# Altium footprint library Led.PcbLib: 80 footprints (part 3 of 5)
Each footprint in its own frame and in the unit in brackets; x right, y up, seen from the top. Pads: shape width x height; smd on the part's side, far side on the other; paste and mask are expansions set on the pad; w line width, h text height; cw(c..) or ccw(c..) is an arc to the next point about the centre after c.
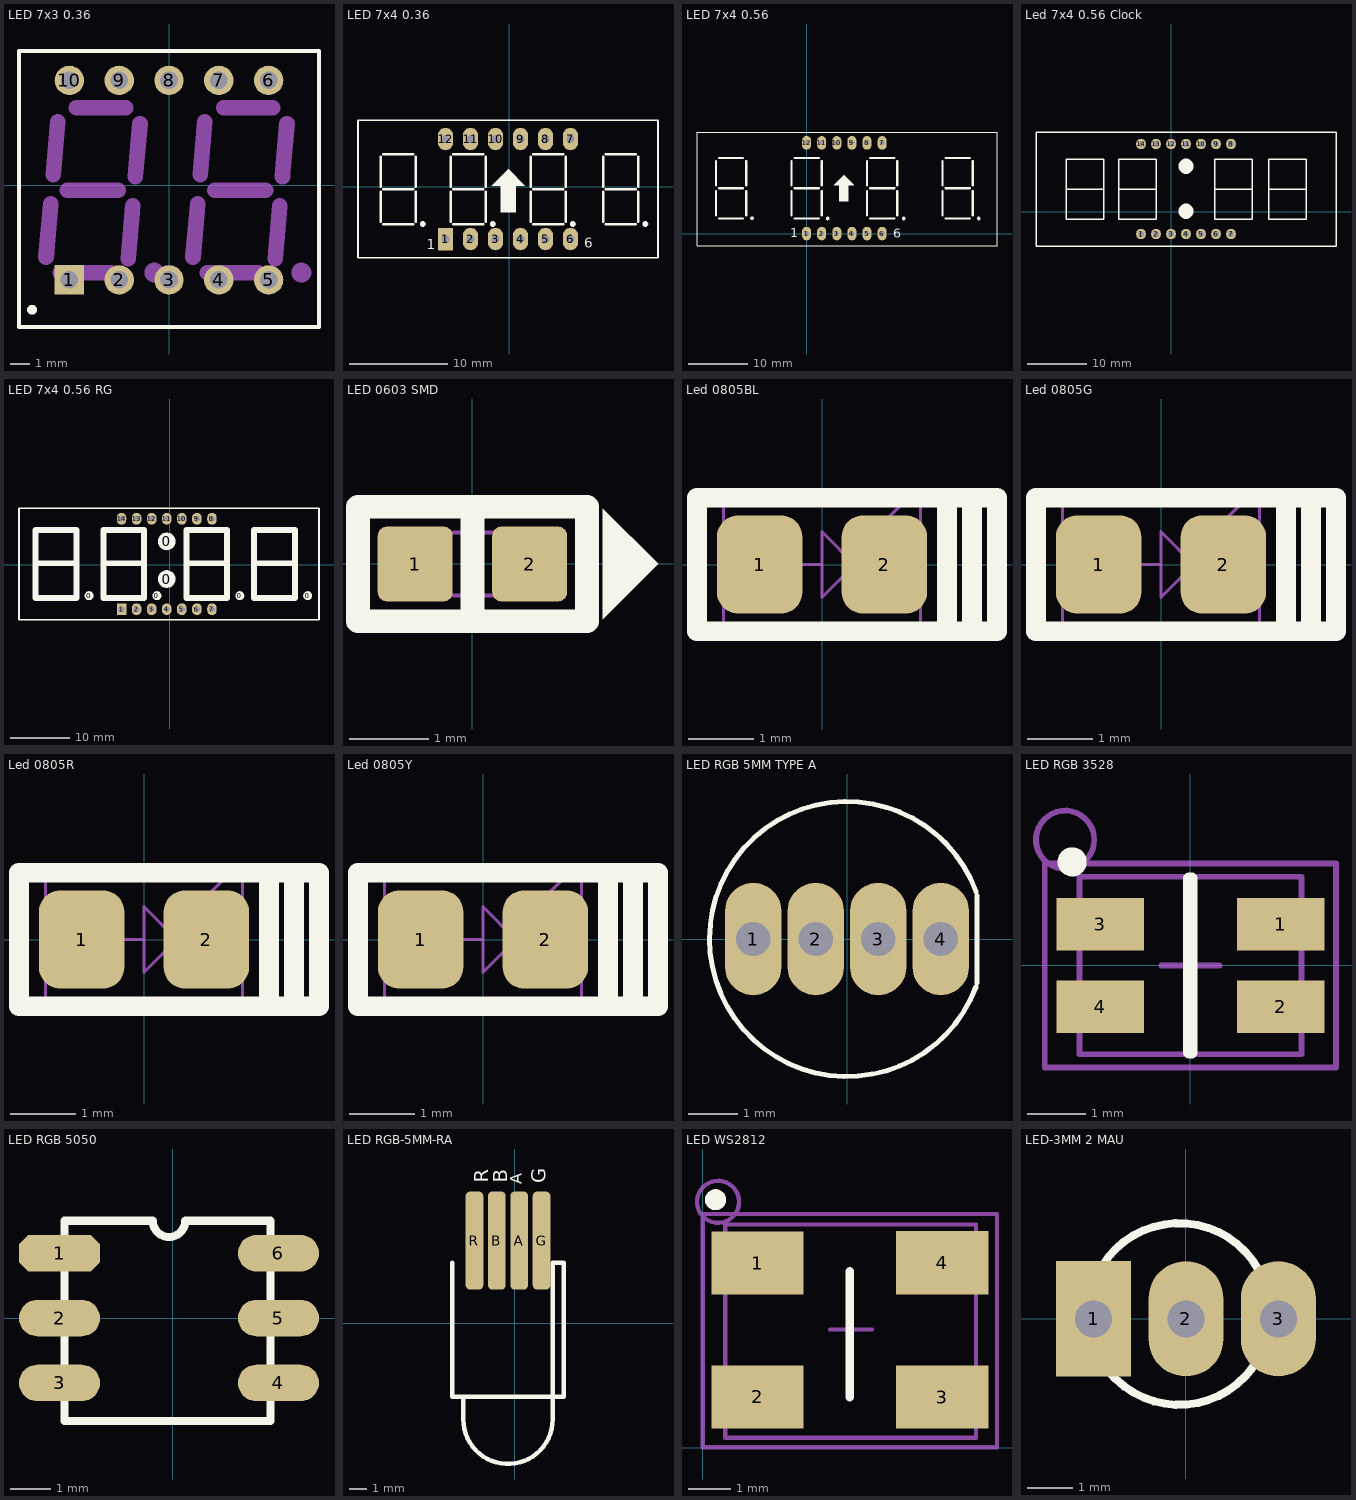
[diagram p2: the footprints below, top view; thin cyan lines are the x and y axes]

## LED 7x3 0.36 [mm]
height 7.35
pads (10):
  rect 1.5x1.5 hole 0.9: 1(-5.08,-4.826)
  round 1.5 hole 0.9: 2(-2.54,-4.826) 3(0,-4.826) 4(2.54,-4.826) 5(5.08,-4.826) 6(5.08,5.35) 7(2.54,5.35) 8(0,5.35) 9(-2.54,5.35) 10(-5.08,5.35)
Top Overlay:
  circle w0.25: c-6.985,-6.35 r0.125
  lines w0.2: -7.65,-7.239 -7.65,-0.635 -7.65,6.858 7.65,6.858 7.65,-7.239 -7.65,-7.239
Mechanical 1:
  circle w0.75: c-0.747,-4.454 r0.13
  circle w0.75: c6.753,-4.454 r0.13
  lines w0.8: -6.275,-3.656 -6.038,-0.949 ; -5.909,0.547 -5.671,3.242 ; -5.541,-4.454 -2.949,-4.454 ; -5.172,-0.254 -2.582,-0.254 ; -4.714,3.946 -2.213,3.946 ; -2.084,-3.75 -1.847,-1.056 ; -1.715,0.448 -1.48,3.145 ; 1.225,-3.656 1.462,-0.949 ; 1.591,0.547 1.829,3.242 ; 1.959,-4.454 4.551,-4.454 ; 2.328,-0.254 4.918,-0.254 ; 2.786,3.946 5.287,3.946 ; 5.416,-3.75 5.653,-1.056 ; 5.785,0.448 6.02,3.145
3D body "61300511821.stp": height 8.51, standoff -3.09, extent -6.6,4.1 6.6,6.6
3D body "61300511821.stp": height 8.51, standoff -3.09, extent -6.6,-6.076 6.6,-3.576
3D body "SD-3361_X.SLDPRT": height 12, standoff -1.3, extent -9.98,-6.746 12.52,7.254

## LED 7x4 0.36 [mil]
height 300
pads (12):
  rect 60x90 hole 31: 1(-255,-210)
  oval 60x90 hole 31: 2(-155,-210) 3(-55,-210) 4(45,-210) 5(145,-210) 6(245,-210) 7(245,190) 8(145,190) 9(45,190) 10(-55,190) 11(-155,190) 12(-255,190)
Top Overlay:
  circle w12: c-66,-150 r6
  circle w12: c-346,-150 r6
  circle w12: c544,-150 r6
  circle w12: c254,-150 r6
  region: -71,3 -5,69 -3,69 62,4 62,3 25,3 25,-103 -34,-103 -34,3
  lines w7: -605,-285 595,-285 595,265 -605,265 -605,-285
  lines w10: -515,-140 -515,-20 ; -515,0 -515,120 ; -505,-150 -385,-150 ; -505,130 -385,130 ; -375,-140 -375,-20 ; -375,0 -375,120 ; -235,-140 -235,-20 ; -235,0 -235,120 ; -225,-150 -105,-150 ; -225,130 -105,130 ; -95,-140 -95,-20 ; -95,0 -95,120 ; 85,-140 85,-20 ; 85,0 85,120 ; 95,-150 215,-150 ; 95,130 215,130 ; 225,-140 225,-20 ; 225,0 225,120 ; 375,-140 375,-20 ; 375,0 375,120 ; 385,-150 505,-150 ; 385,130 505,130 ; 515,-140 515,-20 ; 515,0 515,120 ; -505,-10 -385,-10 -505,-10 ; -225,-10 -105,-10 -225,-10 ; 95,-10 215,-10 95,-10 ; 385,-10 505,-10 385,-10
  text "6" at 300,-245 h39.37
  text "1" at -330,-250 h39.37
3D body "User Library-7-seg-4_asm.STEP": height 7.87, standoff -511.81, extent -595.55,-291.18 585.55,260
3D body "SOCKET6.stp": height 276.19, standoff -117.51, extent -305,140 295,240
3D body "SOCKET6.stp": height 276.19, standoff -117.51, extent -305,-259.99 295,-159.99

## LED 7x4 0.56 [mil]
height 300
pads (12):
  oval 60x90 hole 31: 1(0,0) 2(100,0) 3(200,0) 4(300,0) 5(400,0) 6(500,0) 7(500,600) 8(400,600) 9(300,600) 10(200,600) 11(100,600) 12(0,600)
Top Overlay:
  drawing of 155 lines, arcs and shapes, not listed
  text "1" at -108,-24 h60
  text "6" at 575,-26 h60
3D body "7seg2-4.STEP": height 564.96, standoff 112.2, extent -720.16,-80 1260.16,668.03
3D body "SOCKET6.stp": height 276.19, standoff -117.51, extent -50,-44.99 550,55.01
3D body "SOCKET6.stp": height 276.19, standoff -117.51, extent -50,550 550,650

## Led 7x4 0.56 Clock [mil]
pads (14):
  oval 65x70 hole 40: 1(-200,-150) 2(-100,-150) 3(0,-150) 4(100,-150) 5(200,-150) 6(300,-150) 7(400,-150) 8(400,450) 9(300,450) 10(200,450) 11(100,450) 12(0,450) 13(-100,450) 14(-200,450)
Top Overlay:
  lines w10: -700,150 -450,150 ; -350,150 -100,150 ; 290,150 540,150 ; 650,150 900,150 ; -900,-230 -900,530 1100,530 1100,-230 -900,-230 ; -700,-50 -450,-50 -450,350 -700,350 -700,-50 ; -350,-50 -100,-50 -100,350 -350,350 -350,-50 ; 290,-50 540,-50 540,350 290,350 290,-50 ; 650,-50 900,-50 900,350 650,350 650,-50
  lines w100: 100,0 ccw(c72,4) 100.28,4 ; 100,300 ccw(c72,304) 100.28,304
3D body "7seg clock.step": height 280.13, standoff -196.25, extent -890.15,-224.01 1090.16,524.02

## LED 7x4 0.56 RG [mil]
pads (20):
  round 60 on Top Overlay: 0(-535,-205) 0(-85,-205) 0(465,-205) 0(915,-205)
  round 118.11 on Top Overlay: 0(-20,-95) 0(-20,155)
  rect 62.99x78.74 hole 39.37: 1(-320,-295)
  oval 62.99x78.74 hole 39.37: 2(-220,-295) 3(-120,-295) 4(-20,-295) 5(80,-295) 6(180,-295) 7(280,-295) 8(280,305) 9(180,305) 10(80,305) 11(-20,305) 12(-120,305) 13(-220,305) 14(-320,305)
Top Overlay:
  lines w10: -1000,-365 -1000,375 990,375 990,-365 -1000,-365
  lines w39.37: -885,10 -620,10 ; -435,10 -170,10 ; 115,10 380,10 ; 565,10 830,10 ; -890,-220 -890,230 -620,230 -620,-220 -890,-220 ; -440,-220 -440,230 -170,230 -170,-220 -440,-220 ; 110,-220 110,230 380,230 380,-220 110,-220 ; 560,-220 560,230 830,230 830,-220 560,-220
3D body "7seg2-4.STEP": height 564.96, standoff 112.2, extent -995.16,-370 985.16,378.03
3D body "SOCKET6.stp": height 276.19, standoff -117.51, extent -325,-334.99 275,-234.99
3D body "SOCKET6.stp": height 276.19, standoff -117.51, extent -325,260 275,360

## LED 0603 SMD [mm] "Reflow Soldering"
pads (2):
  rrect25% 0.95x0.95 smd mask+0.1: 1(-0.725,0) 2(0.725,0)
Top Overlay:
  region: 1.65,-0.7 2.35,0 1.65,0.7
  lines w0.3: -1.45,0.725 -1.45,-0.725 1.435,-0.725 ; -1.435,0.725 1.435,0.725 ; 0,-0.725 0,0.725 ; 1.45,-0.725 1.45,0.725
Mechanical 2:
  lines w0.05: -0.1,-0.1 0.1,0.1 ; -0.1,0.1 0.1,-0.1 ; -0.8,-0.4 -0.8,0.4 0.8,0.4 0.8,-0.4 -0.8,-0.4
3D body "User Library-LTST-C190GKT.STEP": height 0.9, standoff 0, extent -0.85,-0.45 0.85,0.45

## Led 0805BL [mm] "Chip LED; BLUE ; Body 2.0 x 1.3 mm (LxW typ)"
height 1.1
pads (2):
  rrect50% 1.3x1.5 smd: 1(-0.95,0) 2(0.95,0)
Top Overlay:
  lines w0.3: 1.905,-1.016 1.905,1.016 ; 2.286,-1.016 2.286,1.016 ; -1.905,-1.016 -1.905,1.016 2.667,1.016 2.667,-1.016 -1.905,-1.016
Mechanical 1:
  lines w0.05: -1.5,-1 -1.5,1.032 ; -0.5,0 0,0 ; 0.5,-0.5 0.5,0.5 ; 0.6,0.5 0.8,0.7 0.8,0.5 1.2,0.9 ; 0.75,0.2 0.95,0.4 0.95,0.2 1.35,0.6 ; 1,0 0.5,0 ; 1.5,-1 1.5,1.032 ; 0.5,0 0,0.5 0,-0.5 0.5,0 ; -1.905,-1 -1.905,1.032 1.905,1.032 1.905,-1 -1.905,-1
3D body "User Library-led_0805.step": height 1.1, standoff 0, extent -1.01,-0.625 1.01,0.625

## Led 0805G [mm] "Chip LED; Green; Body 2.0 x 1.3 mm (LxW typ)"
height 1.1
pads (2):
  rrect50% 1.3x1.5 smd: 1(-0.95,0) 2(0.95,0)
Top Overlay:
  lines w0.3: 1.905,-1.016 1.905,1.016 ; 2.286,-1.016 2.286,1.016 ; -1.905,-1.016 -1.905,1.016 2.667,1.016 2.667,-1.016 -1.905,-1.016
Mechanical 2:
  lines w0.05: -1.5,-1 -1.5,1.032 ; -0.5,0 0,0 ; 0.5,-0.5 0.5,0.5 ; 0.6,0.5 0.8,0.7 0.8,0.5 1.2,0.9 ; 0.75,0.2 0.95,0.4 0.95,0.2 1.35,0.6 ; 1,0 0.5,0 ; 1.5,-1 1.5,1.032 ; 0.5,0 0,-0.5 0,0.5 0.5,0 ; -1.905,-1 -1.905,1.032 1.905,1.032 1.905,-1 -1.905,-1
3D body "User Library-User Library-led_0805 GRE.step": height 1.1, standoff 0, extent -1.035,-0.625 0.985,0.625

## Led 0805R [mm] "Chip LED; RED ; Body 2.0 x 1.3 mm (LxW typ)"
height 1.1
pads (2):
  rrect50% 1.3x1.5 smd: 1(-0.95,0) 2(0.95,0)
Top Overlay:
  lines w0.3: 1.905,-1.016 1.905,1.016 ; 2.286,-1.016 2.286,1.016 ; -1.905,-1.016 -1.905,1.016 2.667,1.016 2.667,-1.016 -1.905,-1.016
Mechanical 1:
  lines w0.05: -1.5,-1 -1.5,1.032 ; -0.5,0 0,0 ; 0.5,-0.5 0.5,0.5 ; 0.6,0.5 0.8,0.7 0.8,0.5 1.2,0.9 ; 0.75,0.2 0.95,0.4 0.95,0.2 1.35,0.6 ; 1,0 0.5,0 ; 1.5,-1 1.5,1.032 ; 0.5,0 0,-0.5 0,0.5 0.5,0 ; -1.905,-1 1.905,-1 1.905,1.032 -1.905,1.032 -1.905,-1
3D body "User Library-User Library-led_0805 R.step": height 1.1, standoff 0, extent -1.01,-0.625 1.01,0.625

## Led 0805Y [mm] "Chip LED; Yellow; Body 2.0 x 1.3 mm (LxW typ)"
height 1.1
pads (2):
  rrect50% 1.3x1.5 smd: 1(-0.95,0) 2(0.95,0)
Top Overlay:
  lines w0.3: 1.905,-1.016 1.905,1.016 ; 2.286,-1.016 2.286,1.016 ; -1.905,-1.016 2.667,-1.016 2.667,1.016 -1.905,1.016 -1.905,-1.016
Mechanical 1:
  lines w0.05: -1.5,-1 -1.5,1.032 ; -0.5,0 0,0 ; 0.5,-0.5 0.5,0.5 ; 0.6,0.5 0.8,0.7 0.8,0.5 1.2,0.9 ; 0.75,0.2 0.95,0.4 0.95,0.2 1.35,0.6 ; 1,0 0.5,0 ; 1.5,-1 1.5,1.032 ; 0.5,0 0,0.5 0,-0.5 0.5,0 ; -1.905,-1 -1.905,1.032 1.905,1.032 1.905,-1 -1.905,-1
3D body "User Library-User Library-led_0805 YEL.step": height 1.1, standoff 0, extent -1.01,-0.625 1.01,0.625

## LED RGB 5MM TYPE A [mil]
pads (4):
  oval 45x90 hole 27.56: 1(-75,0) 2(-25,0) 3(25,0) 4(75,0)
Top Overlay:
  lines w4: 103.17,-38.17 cw(c0,0) 103.37,37.6 ; 104,-35 104,35

## LED RGB 3528 [mm] "Chip LED, 4-Leads, Body 2.8x3.5mm (max), Pitch 1.42mm, IPC Medium Density"
height 1.9
pads (4):
  rect 1.5x0.9 smd: 1(1.55,0.707) 2(1.55,-0.71) 3(-1.55,0.707) 4(-1.55,-0.707)
Top Overlay:
  circle w0.25: c-2.03,1.778 r0.125
  lines w0.2: -0.025,-1.5 0.025,-1.5 0.025,1.5 -0.025,1.5 -0.025,-1.5
Mechanical 13:
  circle w0.1: c-2.151,2.159 r0.5
  lines w0.1: -1.905,-1.524 1.905,-1.524 1.905,1.524 -1.905,1.524 -1.905,-1.524
Mechanical 15:
  lines w0.1: -0.5,0 0.5,0 ; 0,-0.5 0,0.5 ; -2.5,-1.75 2.5,-1.75 2.5,1.75 -2.5,1.75 -2.5,-1.75
3D body "WL-SBTW_1411_RV.stp": height 1.87, standoff -0.03, extent -1.75,-1.4 1.75,1.4

## LED RGB 5050 [mm]
pads (6):
  oct 2x0.9 smd: 1(-2.794,1.6)
  oval 2x0.9 smd: 2(-2.794,0) 3(-2.794,-1.6) 4(2.606,-1.6) 5(2.606,0) 6(2.606,1.6)
Top Overlay:
  lines w0.2: -2.667,-2.54 -2.667,2.4 -0.494,2.4 ccw(c-0.094,2.4) 0.306,2.4 2.413,2.4 2.413,-2.54 -2.667,-2.54
3D body "User Library-smd_led_5050.step": height 1.6, standoff 0, extent -2.777,-2.54 2.523,2.46

## LED RGB-5MM-RA [mil] "LED RGB Right Angle 5mm"
height 5
pads (4):
  rrect50% 39.37x220 smd paste+1.5 mask+1.5: A(10,185) B(-40,185) G(60,185) R(-90,185)
Top Overlay:
  lines w10: -140,135 -140,-165 110,-165 110,135 85,135 85,-165 85,-215 cw(c-15,-215) -115,-215 -115,-165
  text "B" at -16.79,314.49 h31.5
  text "R" at -58.97,314.49 h31.5
  text "A" at 24.77,311.4 h45
  text "G" at 69.77,313.32 h31.5
3D body: height 5, standoff 0, extent -105.68,-298.7 74.45,281.58
3D body: height 99.8, standoff -99.8, extent -115.3,-198.8 83.91,1.2
3D body: height 100, standoff -100, extent -115.18,-301.8 83.78,-102.65

## LED WS2812 [mm]
pads (4):
  rect 2.2x1.5 smd: 1(1.3,4.39) 2(1.3,1.21) 3(5.7,1.2) 4(5.7,4.4)
Top Overlay:
  circle w0.25: c0.3,5.9 r0.125
  lines w0.2: 3.5,1.2 3.5,4.2
Mechanical 13:
  circle w0.1: c0.36,5.85 r0.5
  lines w0.1: 0.53,0.237 0.53,5.31 6.5,5.31 6.5,0.237 0.53,0.237
Mechanical 15:
  lines w0.1: 3.028,2.811 4.028,2.811 ; 3.528,2.311 3.528,3.311 ; -0.002,0.011 -0.002,5.56 7,5.56 7,4.143 7,3.449 7,2.522 7,1.368 7,0.011 -0.002,0.011
3D body "User Library-ws2812B-1.STEP": height 1.6, standoff 0.03, extent 0.8,0.2 6.2,5.2

## LED-3MM 2 MAU [mil] "LED 3 PIN, 3ly Two colour"
height 300
pads (3):
  rect 65x100 hole 32: 1(-80,0)
  oval 65x100 hole 32: 2(0,0) 3(80,0)
Top Overlay:
  lines w7: 63,-34 63,42
  lines w7.01: 62.87,42.48 ccw(c-5.92,4.16) 62.97,-33.98
3D body "User Library-LED RG.step": height 293.12, standoff -235.62, extent -88.58,-80 88.58,77.48